# Altium schematic symbol library 电源母板.SchLib: 2 symbols
Pins are listed as number, name and electrical type; pins without a type are passive.

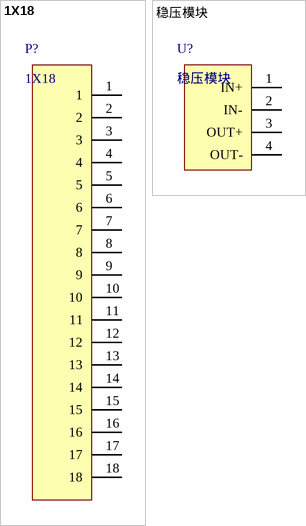
[diagram p0: symbols 1X18 to 稳压模块]

## 1X18
designator P?
pins: 1, 2, 3, 4, 5, 6, 7, 8, 9, 10, 11, 12, 13, 14, 15, 16, 17, 18

## 稳压模块
designator U?
pins: 1 IN+, 2 IN-, 3 OUT+, 4 OUT-